# Altium schematic symbol library iXBT.SchLib: 2 symbols
Pins are listed as number, name and electrical type; pins without a type are passive.

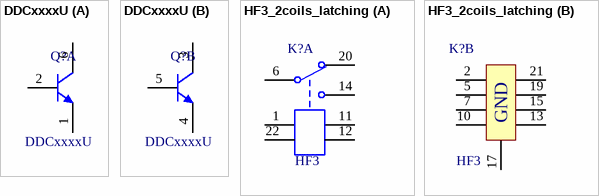
[diagram p0: symbols DDCxxxxU to HF3_2coils_latching]

## DDCxxxxU
designator Q?  PartNumber: DDCxxxxU  (hidden comment: *)
NPN PRE-BIASED SMALL SIGNAL DUAL SURFACE MOUNT TRANSISTOR; Supplier 2: Digi-Key; Supplier Part Number 2: DDC114YU-FDICT-ND; Supplier 1: Avnet; Supplier Part Number 1: DDC114YU-7-F/BKN
footprint SOT-363
part A pins: 1 E, 2 B, 6 C
part B pins: 3 C, 4 E, 5 B

## HF3_2coils_latching
designator K?  PartNumber: HF3  (hidden comment: *)
HF3 Relay, Latching type, 2 coils; Manufacturer: Tyco Electronics
footprint HF3-50_Ohm
footprint HF3-75_Ohm
part A pins: 1, 6, 11, 12, 14, 20, 22
part B pins: 2 GND (power), 5 GND (power), 7 GND (power), 10 GND (power), 13 GND (power), 15 GND (power), 17 GND (power), 19 GND (power), 21 GND (power)